# EAGLE library part R8C21 (library JLB6_Processor)
Renesas R8C21 (R8C23 sans CAN)
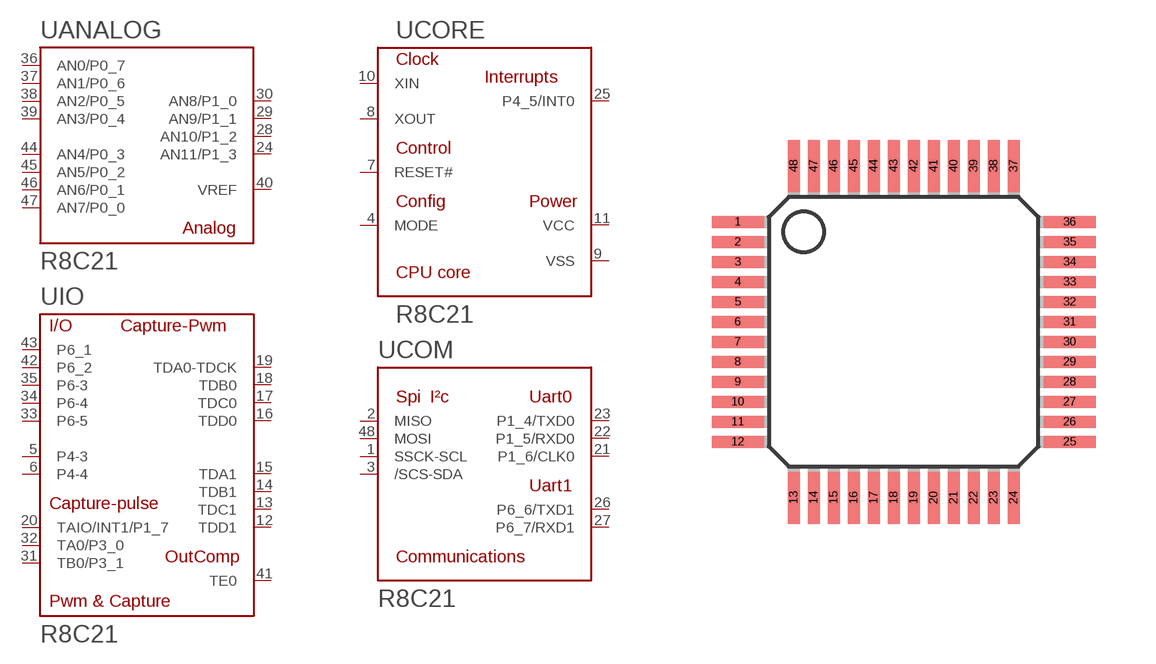
[diagram p27: symbol with the pads of TQFP48; footprint TQFP48]

Designator prefix U; gates CORE=R8C23_CORE ANALOG=R8C23_ANALOG COM=R8C21_COM IO=R8C21_IO

## R8C21  [TQFP48]
1  COM:SSCK-SCL
2  COM:MISO
3  COM:/SCS-SDA
4  CORE:MODE  in
5  IO:P4-3
6  IO:P4-4
7  CORE:RESET#  in
8  CORE:XOUT  out
9  CORE:VSS  pwr
10  CORE:XIN  in
11  CORE:VCC  pwr
12  IO:TDD1
13  IO:TDC1
14  IO:TDB1
15  IO:TDA1
16  IO:TDD0
17  IO:TDC0
18  IO:TDB0
19  IO:TDA0-TDCK
20  IO:TAIO/INT1/P1_7
21  COM:P1_6/CLK0
22  COM:P1_5/RXD0
23  COM:P1_4/TXD0
24  ANALOG:AN11/P1_3
25  CORE:P4_5/INT0
26  COM:P6_6/TXD1
27  COM:P6_7/RXD1
28  ANALOG:AN10/P1_2
29  ANALOG:AN9/P1_1
30  ANALOG:AN8/P1_0
31  IO:TB0/P3_1
32  IO:TA0/P3_0
33  IO:P6-5
34  IO:P6-4
35  IO:P6-3
36  ANALOG:AN0/P0_7
37  ANALOG:AN1/P0_6
38  ANALOG:AN2/P0_5
39  ANALOG:AN3/P0_4
40  ANALOG:VREF
41  IO:TE0
42  IO:P6_2
43  IO:P6_1
44  ANALOG:AN4/P0_3
45  ANALOG:AN5/P0_2
46  ANALOG:AN6/P0_1
47  ANALOG:AN7/P0_0
48  COM:MOSI

## Footprint TQFP48 (pad centres in mm)
Thin Quad Flat Pack
smd 1.3 x 0.3: 1 -4.15,2.75; 2 -4.15,2.25; 3 -4.15,1.75; 4 -4.15,1.25; 5 -4.15,0.75; 6 -4.15,0.25; 7 -4.15,-0.25; 8 -4.15,-0.75; 9 -4.15,-1.25; 10 -4.15,-1.75; 11 -4.15,-2.25; 12 -4.15,-2.75; 25 4.15,-2.75; 26 4.15,-2.25; 27 4.15,-1.75; 28 4.15,-1.25; 29 4.15,-0.75; 30 4.15,-0.25; 31 4.15,0.25; 32 4.15,0.75; 33 4.15,1.25; 34 4.15,1.75; 35 4.15,2.25; 36 4.15,2.75
smd 0.3 x 1.3: 13 -2.75,-4.15; 14 -2.25,-4.15; 15 -1.75,-4.15; 16 -1.25,-4.15; 17 -0.75,-4.15; 18 -0.25,-4.15; 19 0.25,-4.15; 20 0.75,-4.15; 21 1.25,-4.15; 22 1.75,-4.15; 23 2.25,-4.15; 24 2.75,-4.15; 37 2.75,4.15; 38 2.25,4.15; 39 1.75,4.15; 40 1.25,4.15; 41 0.75,4.15; 42 0.25,4.15; 43 -0.25,4.15; 44 -0.75,4.15; 45 -1.25,4.15; 46 -1.75,4.15; 47 -2.25,4.15; 48 -2.75,4.15